# EAGLE library part CON-CP-06 (library Namenlos)
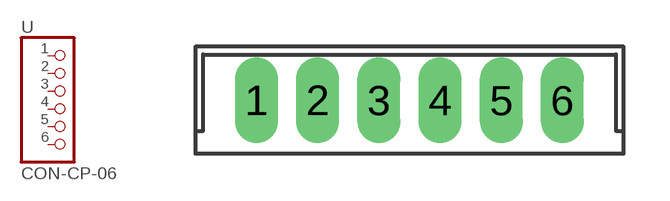
[diagram p34: symbol with the pads of CON-CT-06; footprint CON-CT-06]

Designator prefix -

## CON-CP-06  [CON-CT-06]
1  1  pas
2  2  pas
3  3  pas
4  4  pas
5  5  pas
6  6  pas

## Footprint CON-CT-06 (pad centres in mm)
drill 0.9 long: 1 -5,0; 2 -3,0; 3 -1,0; 4 1,0; 5 3,0; 6 5,0